# EAGLE library part 24LC256-I/MS (library Microchip_By_element14_Batch_1)
256K I2C CMOS Serial EEPROM
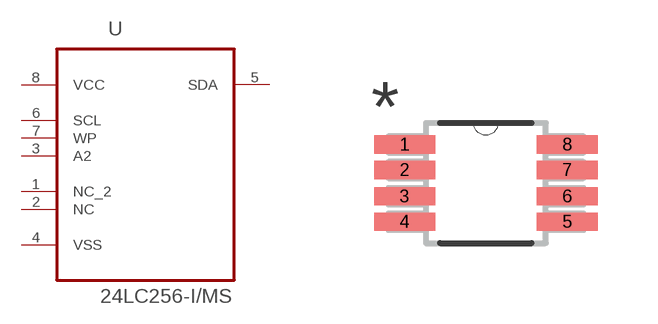
[diagram p73: symbol with the pads of SOP65P490X110-8N; footprint SOP65P490X110-8N]

Designator prefix -

## 24LC256-I/MS (MPN: 24LC256-I/MS; OC_FARNELL: 1331329; OC_NEWARK: 54K2863; PACKAGE: MSOP-8; SUPPLIER: MICROCHIP)  [SOP65P490X110-8N]
1  NC_2  nc
2  NC  nc
3  A2  in
4  VSS  pas
5  SDA
6  SCL  in
7  WP  in
8  VCC  pwr

## Footprint SOP65P490X110-8N (pad centres in mm)
smd 1.524 x 0.457: 1 -2.032,0.965; 2 -2.032,0.33; 3 -2.032,-0.33; 4 -2.032,-0.965; 5 2.032,-0.965; 6 2.032,-0.33; 7 2.032,0.33; 8 2.032,0.965